# Altium schematic symbol library Additional.SchLib: 1 symbol
Pins are listed as number, name and electrical type; pins without a type are passive.

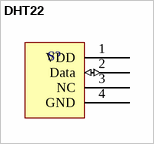
[diagram p0: symbol DHT22]

## DHT22
designator S?
DHT22 Sensor
pins: 1 VDD (power), 2 Data (io), 3 NC, 4 GND